# Altium footprint library Inductance.PcbLib: 23 footprints (part 2 of 2)
Each footprint in its own frame and in the unit in brackets; x right, y up, seen from the top. Pads: shape width x height; smd on the part's side, far side on the other; paste and mask are expansions set on the pad; w line width, h text height; cw(c..) or ccw(c..) is an arc to the next point about the centre after c.
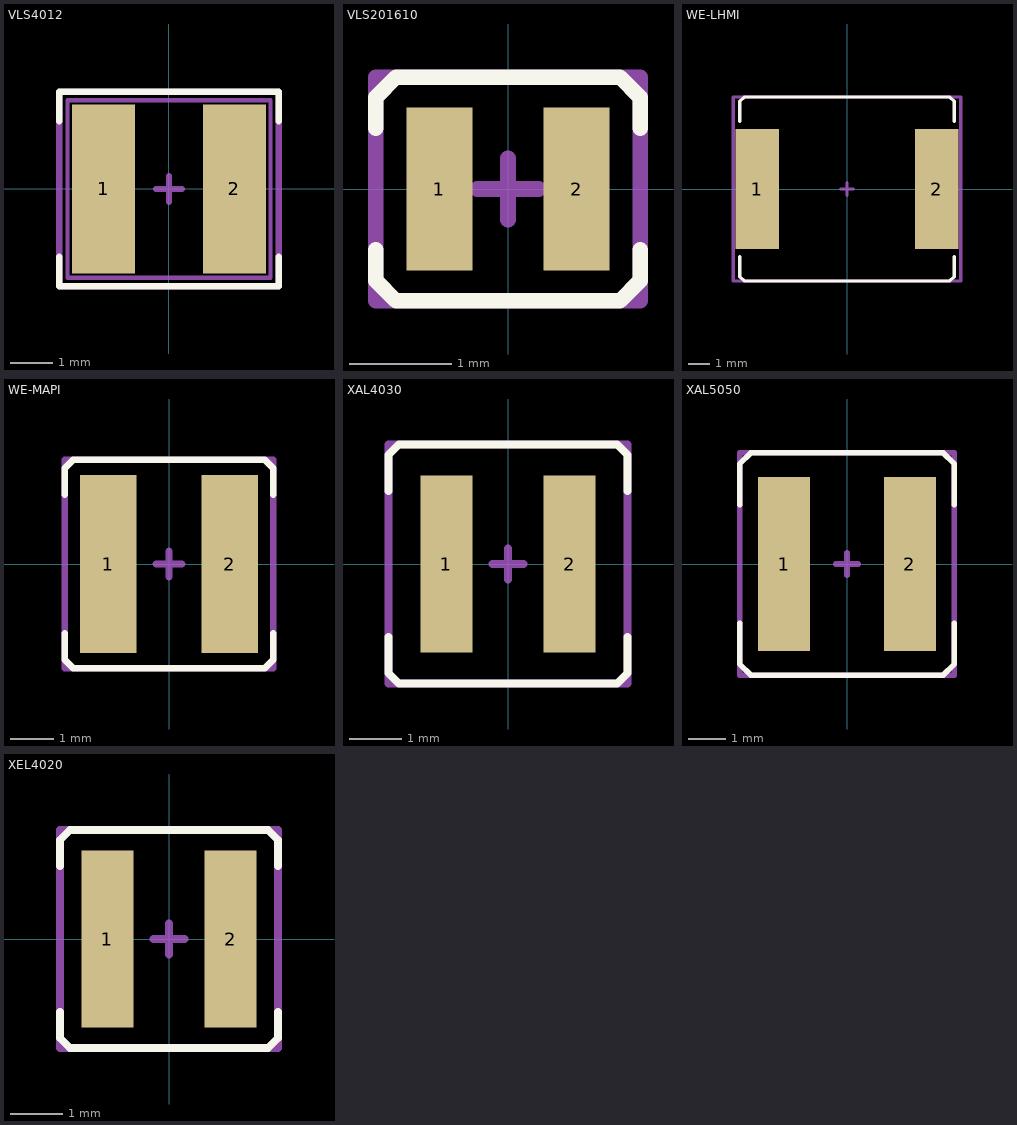
[diagram p1: the footprints below, top view; thin cyan lines are the x and y axes]

## VLS4012 [mm]
pads (2):
  rect 1.5x4 smd: 1(-1.55,0) 2(1.55,0)
Top Overlay:
  lines w0.153: -2.6,-1.6 -2.6,-2.3 2.6,-2.3 2.6,-1.6 ; -2.6,1.6 -2.6,2.3 2.6,2.3 2.6,1.6
Top Assembly:
  lines w0.1: -2.4,-2.1 -2.4,2.1 2.4,2.1 2.4,-2.1 -2.4,-2.1
  text "'.Designator'" at -4.532,-0.333 h0.8
Top Courtyard:
  lines w0.153: -0.3,0 0.3,0 ; 0,-0.3 0,0.3 ; -2.6,-2.3 -2.6,2.3 2.6,2.3 2.6,-2.3 -2.6,-2.3
3D body "vls4012hbx.step": height 1.19, standoff -0.01, extent -2.002,-2.005 2.002,2.005

## VLS201610 [mm]
pads (2):
  rect 0.65x1.6 smd: 1(-0.675,0) 2(0.675,0)
Top Overlay:
  lines w0.153: -1.3,-0.6 -1.3,-0.9 -1.1,-1.1 1.1,-1.1 1.3,-0.9 1.3,-0.6 ; -1.3,0.6 -1.3,0.9 -1.1,1.1 1.1,1.1 1.3,0.9 1.3,0.6
Top Assembly:
  lines w0.1: -1.3,-1.1 -1.3,1.1 1.3,1.1 1.3,-1.1 -1.3,-1.1
  text "'.Designator'" at -4.532,-0.333 h0.8
Top Courtyard:
  lines w0.153: -0.3,0 0.3,0 ; 0,-0.3 0,0.3 ; -1.3,-1.1 -1.3,1.1 1.3,1.1 1.3,-1.1 -1.3,-1.1
3D body "vls201610cx-1.step": height 0.99, standoff -0.01, extent -1,-0.8 1,0.8

## WE-LHMI [mm]
pads (2):
  rect 2x5.5 smd: 1(-4.1,0) 2(4.1,0)
Top Overlay:
  lines w0.153: -4.9,-3.1 -4.9,-4 -4.7,-4.2 4.7,-4.2 4.9,-4 4.9,-3.1 ; -4.9,3.1 -4.9,4 -4.7,4.2 4.7,4.2 4.9,4 4.9,3.1
Top Assembly:
  lines w0.1: -5.2,-4.2 -5.2,4.2 5.2,4.2 5.2,-4.2 -5.2,-4.2
  text "'.Designator'" at -4.532,-0.333 h0.8
Top Courtyard:
  lines w0.153: -0.3,0 0.3,0 ; 0,-0.3 0,0.3 ; -5.2,-4.2 -5.2,4.2 5.2,4.2 5.2,-4.2 -5.2,-4.2
3D body "WE-LHMI-8030.STEP": height 3.05, standoff 0.05, extent -4.725,-4.1 4.725,4.1

## WE-MAPI [mm]
pads (2):
  rect 1.3x4.1 smd: 1(-1.4,0) 2(1.4,0)
Top Overlay:
  lines w0.153: -2.4,-1.6 -2.4,-2.2 -2.2,-2.4 2.2,-2.4 2.4,-2.2 2.4,-1.6 ; -2.4,1.6 -2.4,2.2 -2.2,2.4 2.2,2.4 2.4,2.2 2.4,1.6
Top Assembly:
  lines w0.1: -2.4,-2.4 2.4,-2.4 2.4,2.4 -2.4,2.4 -2.4,-2.4
  text "'.Designator'" at -4.532,-0.333 h0.8
Top Courtyard:
  lines w0.153: -0.3,0 0.3,0 ; 0,-0.3 0,0.3 ; -2.4,-2.4 2.4,-2.4 2.4,2.4 -2.4,2.4 -2.4,-2.4
3D body "WE-MAPI-4030_stp (rev1) (1).STEP": height 3.1, standoff 0, extent -2.05,-2.05 2.05,2.05

## XAL4030 [mm]
pads (2):
  rect 1x3.4 smd: 1(-1.185,0) 2(1.185,0)
Top Overlay:
  lines w0.153: -2.3,-1.4 -2.3,-2.1 -2.1,-2.3 2.1,-2.3 2.3,-2.1 2.3,-1.4 ; -2.3,1.4 -2.3,2.1 -2.1,2.3 2.1,2.3 2.3,2.1 2.3,1.4
Top Assembly:
  lines w0.1: -2.3,-2.3 2.3,-2.3 2.3,2.3 -2.3,2.3 -2.3,-2.3
  text "'.Designator'" at -4.532,-0.333 h0.8
Top Courtyard:
  lines w0.153: -0.3,0 0.3,0 ; 0,-0.3 0,0.3 ; -2.3,-2.3 2.3,-2.3 2.3,2.3 -2.3,2.3 -2.3,-2.3
3D body "Coilcraft-XEL4020.step": height 2.1, standoff 0, extent -2.15,-2.15 2.15,2.15

## XAL5050 [mm]
pads (2):
  rect 1.4x4.7 smd: 1(-1.7,0) 2(1.7,0)
Top Overlay:
  lines w0.153: -2.9,-1.6 -2.9,-2.7 -2.6,-3 2.6,-3 2.9,-2.7 2.9,-1.6 ; -2.9,1.6 -2.9,2.7 -2.6,3 2.6,3 2.9,2.7 2.9,1.6
Top Assembly:
  lines w0.1: -2.9,-3 -2.9,3 2.9,3 2.9,-3 -2.9,-3
  text "'.Designator'" at -4.532,-0.333 h0.8
Top Courtyard:
  lines w0.153: -0.3,0 0.3,0 ; 0,-0.3 0,0.3 ; -2.9,-3 -2.9,3 2.9,3 2.9,-3 -2.9,-3
3D body "Coilcraft-XAL5050.step": height 5.1, standoff 0, extent -2.74,-2.84 2.74,2.84

## XEL4020 [mm]
pads (2):
  rect 1x3.4 smd: 1(-1.185,0) 2(1.185,0)
Top Overlay:
  lines w0.153: -2.1,-1.4 -2.1,-1.9 -1.9,-2.1 1.9,-2.1 2.1,-1.9 2.1,-1.4 ; -2.1,1.4 -2.1,1.9 -1.9,2.1 1.9,2.1 2.1,1.9 2.1,1.4
Top Assembly:
  lines w0.1: -2.1,-2.1 2.1,-2.1 2.1,2.1 -2.1,2.1 -2.1,-2.1
  text "'.Designator'" at -4.532,-0.333 h0.8
Top Courtyard:
  lines w0.153: -0.3,0 0.3,0 ; 0,-0.3 0,0.3 ; -2.1,-2.1 2.1,-2.1 2.1,2.1 -2.1,2.1 -2.1,-2.1
3D body "XEL.STEP": height 1.45, standoff -0.02, extent -1.918,-1.988 1.918,1.988